# Altium schematic symbol library ScienceSymbols.SchLib: 8 symbols
Pins are listed as number, name and electrical type; pins without a type are passive.

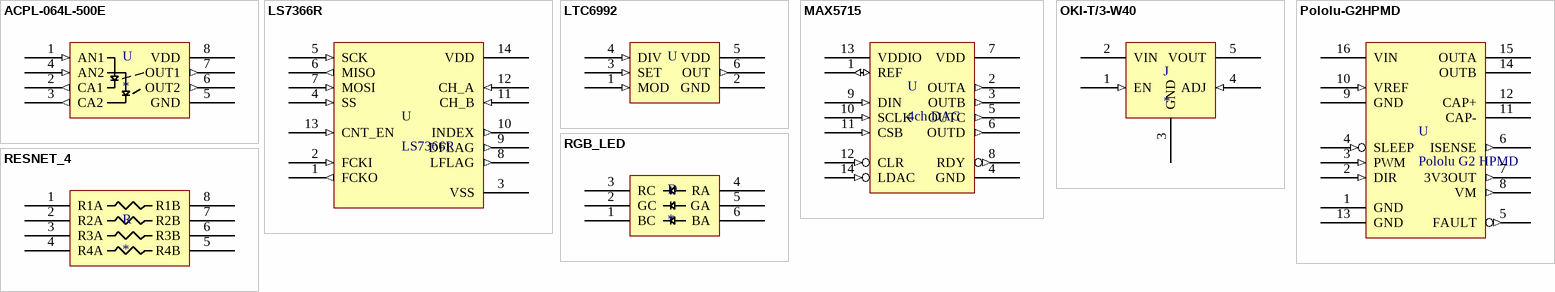
[diagram p0: symbols ACPL-064L-500E to RGB_LED]

## ACPL-064L-500E
designator U
Low-Power 10-MBd Digital CMOS Optocouplers
pins: 1 AN1 (in), 2 CA1 (out), 3 CA2 (out), 4 AN2 (in), 5 GND (power), 6 OUT2 (out), 7 OUT1 (out), 8 VDD (power)

## LS7366R
designator U
32-BIT QUADRATURE COUNTER WITH SERIAL INTERFACE; ComponentLink1Description: Datasheet; ComponentLink1URL: https://lsicsi.com/pdfs/Data_Sheets/LS7366R.pdf
pins: 1 FCKO (out), 2 FCKI (in), 3 VSS (power), 4 SS (in), 5 SCK (in), 6 MISO (out), 7 MOSI (in), 8 LFLAG (out), 9 DFLAG (out), 10 INDEX (out), 11 CH_B (in), 12 CH_A (in), 13 CNT_EN (in), 14 VDD (power)

## LTC6992
designator U
Voltage-Controlled Pulse / Width Modulator (PWM)
pins: 1 MOD (in), 2 GND (power), 3 SET (in), 4 DIV (in), 5 VDD (power), 6 OUT (out)

## MAX5715
designator U, comment 4ch DAC
Ultra-Small, Quad-Channel, 8-/10-/12-Bit Buffered / Output DACs with Internal Reference and SPI Interface
pins: 1 REF (io), 2 OUTA (out), 3 OUTB (out), 4 GND (power), 5 OUTC (out), 6 OUTD (out), 7 VDD (power), 8 RDY (out), 9 DIN (in), 10 SCLK (in), 11 CSB (in), 12 CLR (in), 13 VDDIO (power), 14 LDAC (in)

## OKI-T/3-W40
designator J
Adjustable Output 3-Amp DOSA-SMT DC/DC Converters; ComponentLink1Description: Datasheet; ComponentLink1URL: https://power.murata.com/data/power/oki-t3-w40.pdf
pins: 1 EN (in), 2 VIN (power), 3 GND (power), 4 ADJ (in), 5 VOUT (power)

## Pololu-G2HPMD
designator U, comment Pololu G2 HPMD
Discrete MOSFET H-bridge; ComponentLink1Description: Website; ComponentLink1URL: https://www.pololu.com/product/2995
pins: 1 GND (power), 2 DIR (in), 3 PWM (in), 4 SLEEP (in), 5 FAULT (out), 6 ISENSE (out), 7 3V3OUT (out), 8 VM (out), 9 GND (power), 10 VREF (in), 11 CAP- (power), 12 CAP+ (power), 13 GND (power), 14 OUTB (power), 15 OUTA (power), 16 VIN (power)

## RESNET_4
designator R
4-Resistor Network
pins: 1 R1A, 2 R2A, 3 R3A, 4 R4A, 5 R4B, 6 R3B, 7 R2B, 8 R1B

## RGB_LED
designator D
RGB LED
pins: 1 BC, 2 GC, 3 RC, 4 RA, 5 GA, 6 BA